# EAGLE library part DIP-BLACK-FEMALE-HEADER-VERT(36P-2.54-90D) (library Seeed-OPL-Connector)
320030143
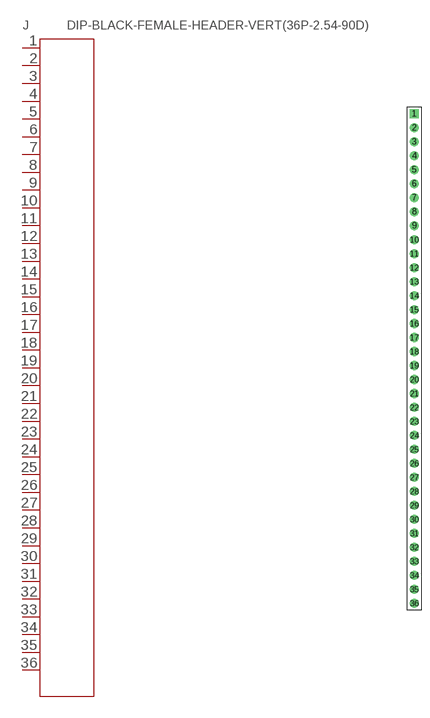
[diagram p98: symbol with the pads of H36-2.54-90D-FEMALE; footprint H36-2.54-90D-FEMALE]

Designator prefix J

## DIP-BLACK-FEMALE-HEADER-VERT(36P-2.54-90D) (MPN: DIP-Black-Female-Header-VERT; VALUE: 36p-2.54-90d)  [H36-2.54-90D-FEMALE]
1  P$1
2  P$2
3  P$3
4  P$4
5  P$5
6  P$6
7  P$7
8  P$8
9  P$9
10  P$10
11  P$11
12  P$12
13  P$13
14  P$14
15  P$15
16  P$16
17  P$17
18  P$18
19  P$19
20  P$20
21  P$21
22  P$22
23  P$23
24  P$24
25  P$25
26  P$26
27  P$27
28  P$28
29  P$29
30  P$30
31  P$31
32  P$32
33  P$33
34  P$34
35  P$35
36  P$36

## Footprint H36-2.54-90D-FEMALE (pad centres in mm)
drill 0.889 pad 1.651 square: 1 0,44.45
drill 0.889 pad 1.651: 2 0,41.91; 3 0,39.37; 4 0,36.83; 5 0,34.29; 6 0,31.75; 7 0,29.21; 8 0,26.67; 9 0,24.13; 10 0,21.59; 11 0,19.05; 12 0,16.51; 13 0,13.97; 14 0,11.43; 15 0,8.89; 16 0,6.35; 17 0,3.81; 18 0,1.27; 19 0,-1.27; 20 0,-3.81; 21 0,-6.35; 22 0,-8.89; 23 0,-11.43; 24 0,-13.97; 25 0,-16.51; 26 0,-19.05; 27 0,-21.59; 28 0,-24.13; 29 0,-26.67; 30 0,-29.21; 31 0,-31.75; 32 0,-34.29; 33 0,-36.83; 34 0,-39.37; 35 0,-41.91; 36 0,-44.45